# EAGLE library part ESP-PROG (library IoTMakers)
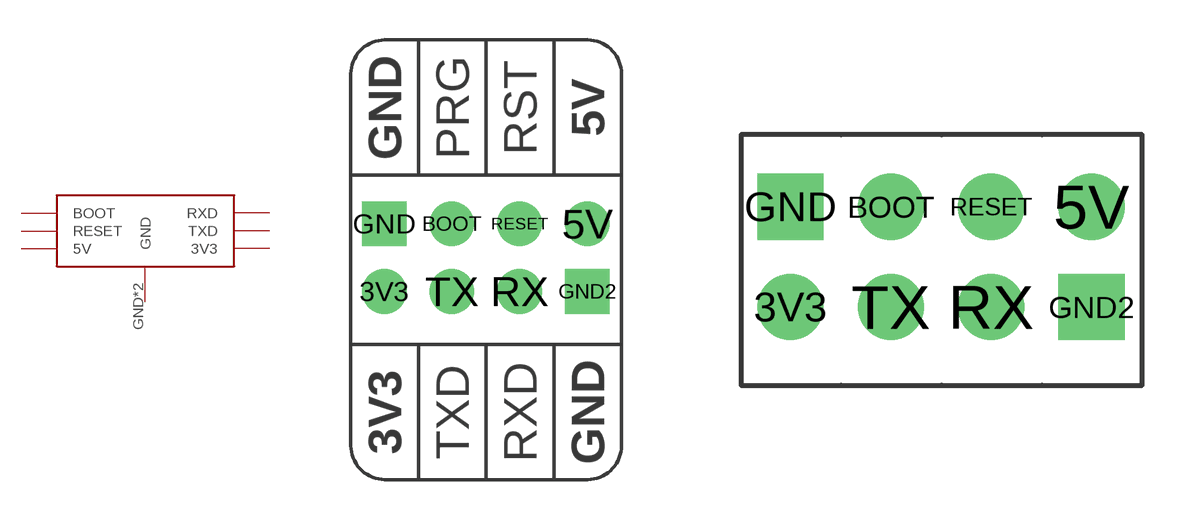
[diagram p1: symbol with the pads of ESPROG-1; footprints ESPROG-1, ESPROG-2]

Designator prefix J

## ESP-PROG  [ESPROG-1]
3V3  3V3
5V  5V
BOOT  BOOT
GND  GND
GND2  GND
RESET  RESET
RX  RXD
TX  TXD

## ESP-PROGESPROG-2  [ESPROG-2]
Pads as for ESPROG-1

## ESP-PROGESPROG-3  [ESPROG-3]
3V3  3V3
5V  5V
BOOT  BOOT
P$1  GND
P$8  GND
RESET  RESET
RX  RXD
TX  TXD

## ESP-PROGESPROG-4  [ESPROG-4]
3V3  3V3
5V0  5V
BOOT  BOOT
P$1  GND
P$8  GND
RESET  RESET
RXD  RXD
TXD  TXD

## ESP-PROGESP-PROG-PIN  [ESPROG-3-PIN]
3V3  3V3
5V0  5V
BOOT  BOOT
GND  GND
GND2  GND
RST  RESET
RX  RXD
TX  TXD

## ESP-PROGESPPROG-4-PIN  [ESPROG-4-PIN]
3V3  3V3
5V0  5V
BOOT  BOOT
GND  GND
GND2  GND
RESET  RESET
RX  RXD
TX  TXD

## Footprint ESPROG-1 (pad centres in mm)
ESP8266 Module 01
drill 0.8 pad 1.676: 3V3 -3.825,-8.178; 5V 3.795,-5.638; BOOT -1.285,-5.638; RESET 1.255,-5.638; RX 1.255,-8.178; TX -1.285,-8.178
drill 0.8 pad 1.676 square: GND -3.825,-5.638; GND2 3.795,-8.178

## Footprint ESPROG-2 (pad centres in mm)
ESP8266 Module 01
drill 0.8 pad 1.676: 3V3 -3.825,-8.178; 5V 3.795,-5.638; BOOT -1.285,-5.638; RESET 1.255,-5.638; RX 1.255,-8.178; TX -1.285,-8.178
drill 0.8 pad 1.676 square: GND -3.825,-5.638; GND2 3.795,-8.178

## Footprint ESPROG-3 (pad centres in mm)
smd 2 x 2: 3V3 0,-2.54; 5V 7.62,0; BOOT 2.54,0; P$1 0,0; P$8 7.62,-2.54; RESET 5.08,0; RX 5.08,-2.54; TX 2.54,-2.54
hole 1.8 at -2.54,-1.27
hole 1.8 at 10.16,1.27
hole 1.8 at 10.16,-3.81

## Footprint ESPROG-4 (pad centres in mm)
smd 1.5 x 1.5: 3V3 2,-2; 5V0 8,0; BOOT 4,0; P$1 2,0; P$8 8,-2; RESET 6,0; RXD 6,-2; TXD 4,-2
hole 1.5 at 10,1
hole 1.5 at 10,-3
hole 1.5 at 0,-1

## Footprint ESPROG-3-PIN (pad centres in mm)
drill 1.1 pad 2.184: 3V3 0,-2.54; 5V0 7.62,0; BOOT 2.54,0; GND 0,0; GND2 7.62,-2.54; RST 5.08,0; RX 5.08,-2.54; TX 2.54,-2.54
drill 1.8: P$9 -2.54,-1.27; P$10 10.16,1.27; P$11 10.16,-3.81
hole 1.8 at -2.54,-1.27
hole 1.8 at 10.16,1.27
hole 1.8 at 10.16,-3.81

## Footprint ESPROG-4-PIN (pad centres in mm)
drill 1.1: 3V3 2,-2; 5V0 8,0; BOOT 4,0; GND 2,0; GND2 8,-2; RESET 6,0; RX 6,-2; TX 4,-2
drill 1.6 pad 2.184: P$9 0,-1; P$10 10,1; P$11 10,-3
hole 1.5 at 10,1
hole 1.5 at 10,-3
hole 1.5 at 0,-1